# Altium footprint library Seeed-OPL-Crystal-Oscillator.PCBLIB: 41 footprints (part 1 of 3)
Each footprint in its own frame and in the unit in brackets; x right, y up, seen from the top. Pads: shape width x height; smd on the part's side, far side on the other; paste and mask are expansions set on the pad; w line width, h text height; cw(c..) or ccw(c..) is an arc to the next point about the centre after c.
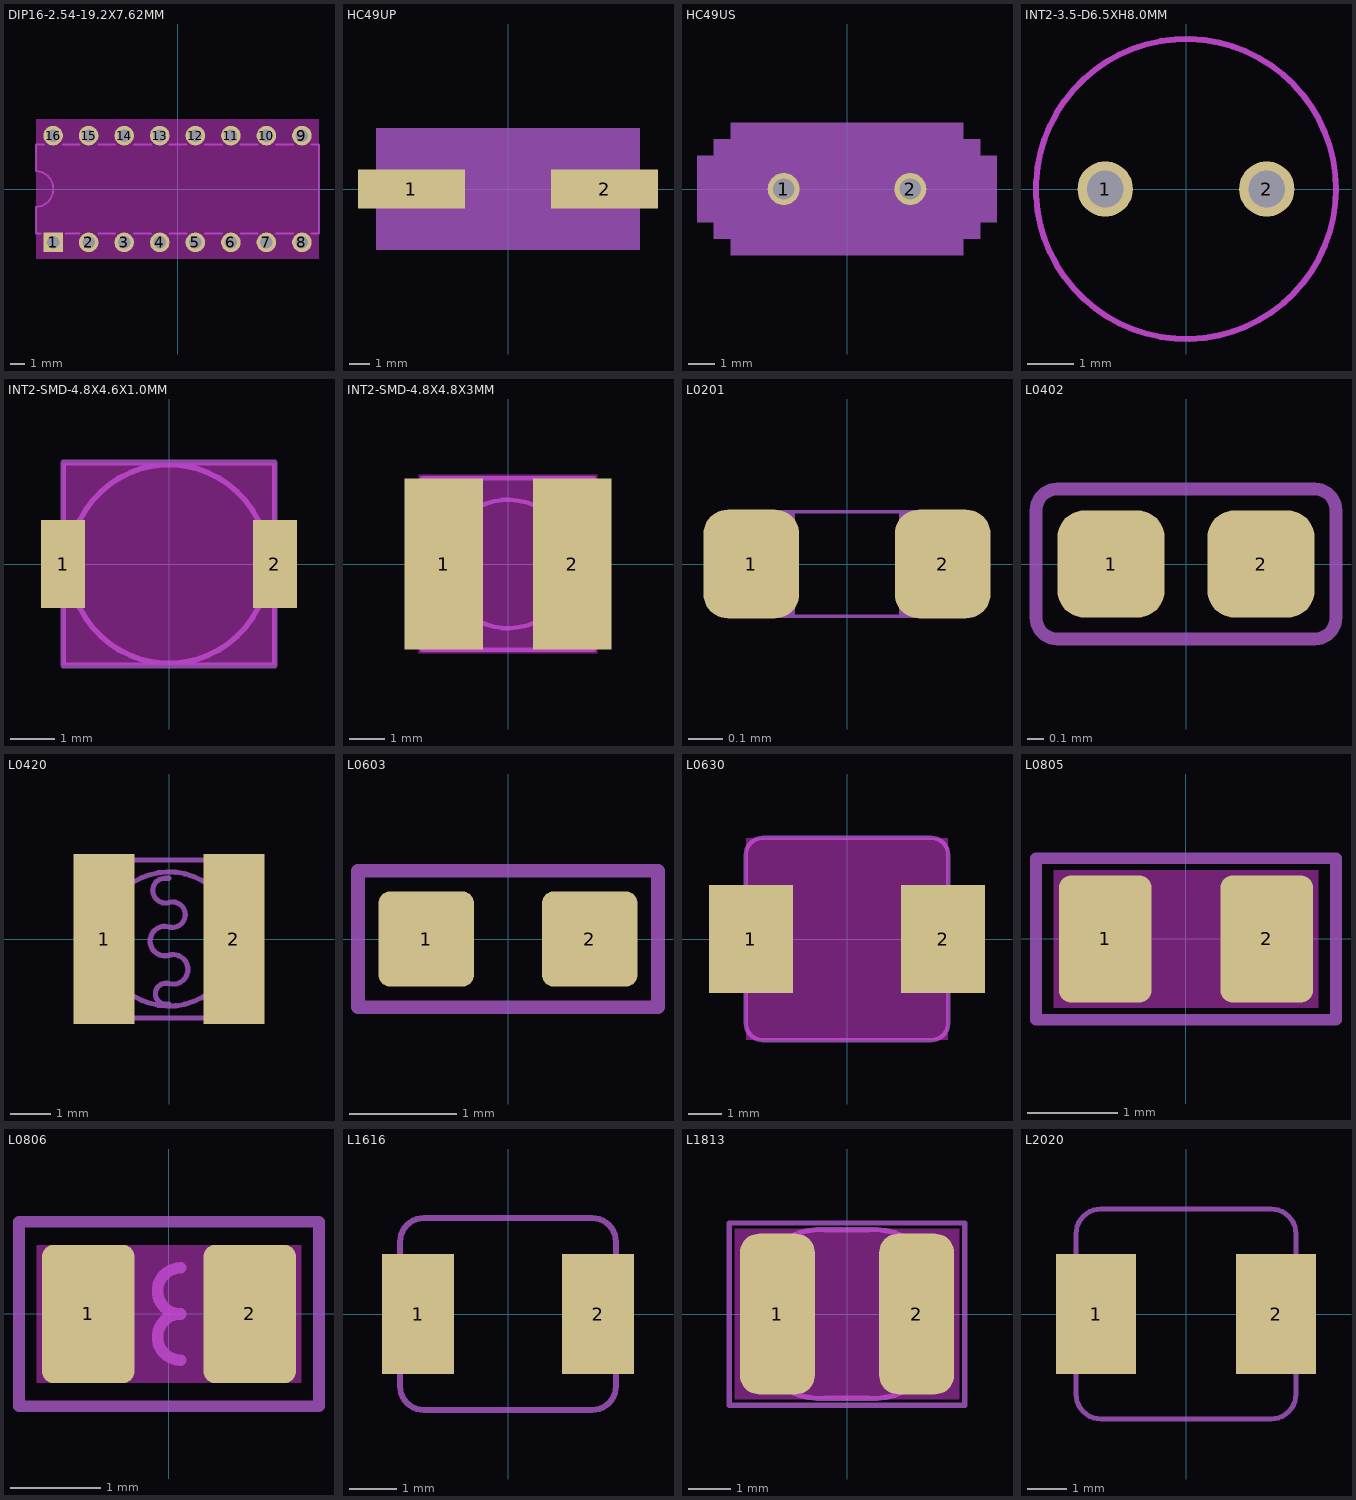
[diagram p0: the footprints below, top view; thin cyan lines are the x and y axes]

## DIP16-2.54-19.2X7.62MM [mil]
pads (16):
  rect 55.12x55.12 hole 35.43: 1(-350,-150)
  round 55.12 hole 35.43: 2(-250,-150) 3(-150,-150) 4(-50,-150) 5(50,-150) 6(150,-150) 7(250,-150) 8(350,-150) 9(350,150) 10(250,150) 11(150,150) 12(50,150) 13(-50,150) 14(-150,150) 15(-250,150) 16(-350,150)
Keep-Out Layer:
  rectangle: -398.03,-196.85 398.03,196.85
Mechanical 2:
  lines w5: -385.83,-125 -398.03,-125 -398.03,-50 ccw(c-398.03,-1.97) -350,-1.97 -350,1.97 ccw(c-398.03,1.97) -398.03,50 -398.03,125 -375,125 ; -323.03,125 -275,125 ; -314.96,-125 -275,-125 ; -223.03,-125 -175,-125 ; -223.03,125 -175,125 ; -123.03,-125 -75,-125 ; -123.03,125 -75,125 ; -23.03,-125 25,-125 ; -23.03,125 25,125 ; 76.97,-125 125,-125 ; 76.97,125 125,125 ; 176.97,-125 225,-125 ; 176.97,125 225,125 ; 276.97,-125 325,-125 ; 276.97,125 325,125 ; 376.97,-125 398.03,-125 398.03,125 376.97,125

## HC49UP [mil]
pads (2):
  rect 210x76 smd: 1(-190,0) 2(190,0)
Mechanical 2:
  lines w2: -201.15,-45 ccw(c-135,0) -135,-80 135,-80 ccw(c135,0) 201.14,-45 ; -201.15,45 cw(c-135,-0.01) -135,80 135,80 cw(c135,0) 201.15,45 ; -156.8,-45 ccw(c-135,0.01) -135,-50 135,-50 ccw(c135,0.01) 156.8,-45 ; -156.8,45 cw(c-135,-0.01) -135,50 135,50 cw(c135,-0.01) 156.8,45 ; -40,0 -25,0 ; 25,0 40,0
  lines w6: -225,-45 -225,-85 ccw(c-215,-85) -215,-95 215,-95 ccw(c215,-85) 225,-85 225,-45 ; -225,45 -225,85 cw(c-215,85) -215,95 215,95 cw(c215,85) 225,85 225,45 ; -25,-25 -25,0 -25,25 ; 25,-25 25,0 25,25 ; -10,-25 -10,25 10,25 10,-25 -10,-25
Mechanical 12:
  rectangle: -260,-120 260,120
Mechanical 18:
  lines w2: -201.15,-45 cw(c-135,0) -201.15,45 ; -156.8,-45 cw(c-135,0) -156.8,45 ; 156.8,-45 ccw(c135,0) 156.8,45 ; 201.15,-45 ccw(c135,0) 201.15,45
  lines w6: -225,-45 -225,-15 ; -225,45 -225,15 ; 225,-45 225,45 ; 225,-15 255,-15 255,15 225,15 ; -225,-15 -225,15 ; -225,-15 -255,-15 -255,15 -225,15

## HC49US [mil]
pads (2):
  round 48 hole 32: 1(-95,0) 2(95,0)
Mechanical 2:
  lines w6: -50,0 -25,0 ; -25,-30 -25,0 ; -25,30 -25,0 ; 25,-30 25,0 ; 25,30 25,0 ; 50,0 25,0 ; -120,-65 120,-65 ccw(c120,0) 120,65 -120,65 ccw(c-120,0) -120,-65 ; -10,-30 10,-30 10,30 -10,30 -10,-30
  lines w16: -120,-85 120,-85 ccw(c120,0) 120,85 -120,85 ccw(c-120,0) -120,-85
Mechanical 12:
  rectangle: -175,-100 175,100
  rectangle: -200,-75 -175,75
  rectangle: -225,-50 -200,50
  rectangle: 175,-75 200,75
  rectangle: 200,-50 225,50

## INT2-3.5-D6.5XH8.0MM [mil]
pads (2):
  round 47.25 hole 31.5: 1(-68.9,0) 2(68.9,0)
Keep-Out Layer:
  circle w5: c0,0 r127.95
Mechanical 2:
  circle w5: c0,0 r127.95

## INT2-SMD-4.8X4.6X1.0MM [mm]
pads (2):
  rect 1x2 smd: 1(-2.4,0) 2(2.4,0)
Keep-Out Layer:
  rectangle: -2.413,-2.286 2.413,2.286
Mechanical 2:
  circle w0.127: c0,0 r2.25
  lines w0.127: -2.4,-2.3 2.4,-2.3 2.4,2.3 -2.4,2.3 -2.4,-2.3

## INT2-SMD-4.8X4.8X3MM [mil]
pads (2):
  rect 86.61x188.98 smd: 1(-70.87,0) 2(70.87,0)
Keep-Out Layer:
  rectangle: -98.43,-98.43 98.43,98.43
Mechanical 2:
  circle w5: c0,0 r70.87
  lines w5: -94.49,-94.49 94.49,-94.49 94.49,94.49 -94.49,94.49 -94.49,-94.49

## L0201 [mil]
pads (2):
  rrect50% 11x12.5 smd: 1(-11,0) 2(11,0)
Mechanical 18:
  rectangle: -12,-6 -6,6
  rectangle: 6,-6 12,6
  lines w0.39: -12,-6 12,-6 12,6 -12,6 -12,-6

## L0402 [mil]
pads (2):
  rrect50% 25x25 smd: 1(-17.5,0) 2(17.5,0)
Mechanical 2:
  lines w3: -35,-12.5 ccw(c-30,-12.5) -30,-17.5 30,-17.5 ccw(c30,-12.5) 35,-12.5 35,12.5 ccw(c30,12.5) 30,17.5 -30,17.5 ccw(c-30,12.5) -35,12.5 -35,-12.5

## L0420 [mil]
pads (2):
  rect 59.06x165.35 smd: 1(-62.99,0) 2(62.99,0)
Mechanical 2:
  circle w5: c0,0 r65.19
  lines w5: 0,-62.99 cw(c-2.87,-53.15) 0,-43.31 ccw(c4.02,-29.53) 0,-15.75 cw(c-4.02,-1.97) 0,11.81 ccw(c3.44,23.62) 0,35.43 cw(c-3.45,47.24) -15.75,47.24 cw(c-3.94,47.24) -3.94,59.06 0,59.06 ; -76.77,-76.77 76.77,-76.77 76.77,76.77 -76.77,76.77 -76.77,-76.77

## L0603 [mil]
pads (2):
  rrect25% 35x35 smd: 1(-30,0) 2(30,0)
Mechanical 2:
  lines w5: -55,-25 55,-25 55,25 -55,25 -55,-25

## L0630 [mil]
pads (2):
  rect 98.43x125.98 smd: 1(-112.2,0) 2(112.2,0)
Keep-Out Layer:
  rectangle: -118.11,-118.11 118.11,118.11
Mechanical 2:
  lines w5: -118.11,-98.43 ccw(c-98.43,-98.43) -98.43,-118.11 98.43,-118.11 ccw(c98.43,-98.43) 118.11,-98.43 118.11,98.43 ccw(c98.43,98.43) 98.43,118.11 -98.43,118.11 ccw(c-98.43,98.43) -118.11,98.43 -118.11,-98.43

## L0805 [mil]
pads (2):
  rrect25% 40x55 smd: 1(-35,0) 2(35,0)
Keep-Out Layer:
  rectangle: -57.5,-30 57.5,30
Mechanical 2:
  lines w5: -65,-35 65,-35 65,35 -65,35 -65,-35

## L0806 [mil]
pads (2):
  rrect25% 40x60 smd: 1(-35,0) 2(35,0)
Keep-Out Layer:
  rectangle: -57.5,-30 57.5,30
Mechanical 2:
  lines w5: 5,-20 cw(c5,-10) 5,0 cw(c5,10) 5,20 ; -65,-40 65,-40 65,40 -65,40 -65,-40

## L1616 [mil]
pads (2):
  rect 60x100 smd: 1(-75,0) 2(75,0)
Mechanical 2:
  lines w5: -90,-60 ccw(c-70,-60) -70,-80 70,-80 ccw(c70,-60) 90,-60 ; -90,60 cw(c-70,60) -70,80 70,80 cw(c70,60) 90,60
Mechanical 18:
  lines w5: -90,-60 -90,60 ; 90,-60 90,60

## L1813 [mil]
pads (2):
  rrect50% 70x150 smd: 1(-65,0) 2(65,0)
Keep-Out Layer:
  rectangle: -105,-80 105,80
Mechanical 2:
  lines w5: -110,-85 110,-85 110,85 -110,85 -110,-85
Mechanical 18:
  lines w5: -88.58,-19.69 ccw(c-88.58,-0.01) -68.9,0 ccw(c-88.58,0.01) -88.58,19.69 cw(c-24.61,14.77) -19.69,78.74 19.69,78.74 cw(c24.61,14.77) 88.58,19.69 ccw(c88.58,0.01) 68.9,0 ccw(c88.58,-0.01) 88.58,-19.69 cw(c24.61,-14.77) 19.69,-78.74 -19.69,-78.74 cw(c-24.61,-14.77) -88.58,-19.69

## L2020 [mil]
pads (2):
  rect 80x120 smd: 1(-90,0) 2(90,0)
Mechanical 2:
  lines w5: -110,-70 -110,-80 ccw(c-85,-80) -85,-105 85,-105 ccw(c85,-80) 110,-80 110,-70 ; -110,70 -110,80 cw(c-85,80) -85,105 85,105 cw(c85,80) 110,80 110,70
Mechanical 18:
  lines w5: -110,-70 -110,70 ; 110,-70 110,70